# Altium schematic symbol library Emi Filter dual channel.SchLib: 1 symbol
Pins are listed as number, name and electrical type; pins without a type are passive.

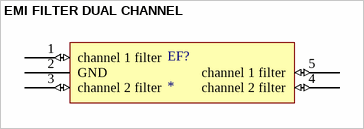
[diagram p0: symbol EMI FILTER DUAL CHANNEL]

## EMI FILTER DUAL CHANNEL
designator EF?
footprint Emi Filter Dual Channel SOTFL (SOTFL, 5-Leads, Body 1,60x1,60mm, Pitch 0,50mm, IPC Medium Density)
pins: 1 channel 1 filter (io), 2 GND (power), 3 channel 2 filter (io), 4 channel 2 filter (io), 5 channel 1 filter (io)